# Altium footprint library Footprints.PcbLib: 19 footprints (part 1 of 2)
Each footprint in its own frame and in the unit in brackets; x right, y up, seen from the top. Pads: shape width x height; smd on the part's side, far side on the other; paste and mask are expansions set on the pad; w line width, h text height; cw(c..) or ccw(c..) is an arc to the next point about the centre after c.
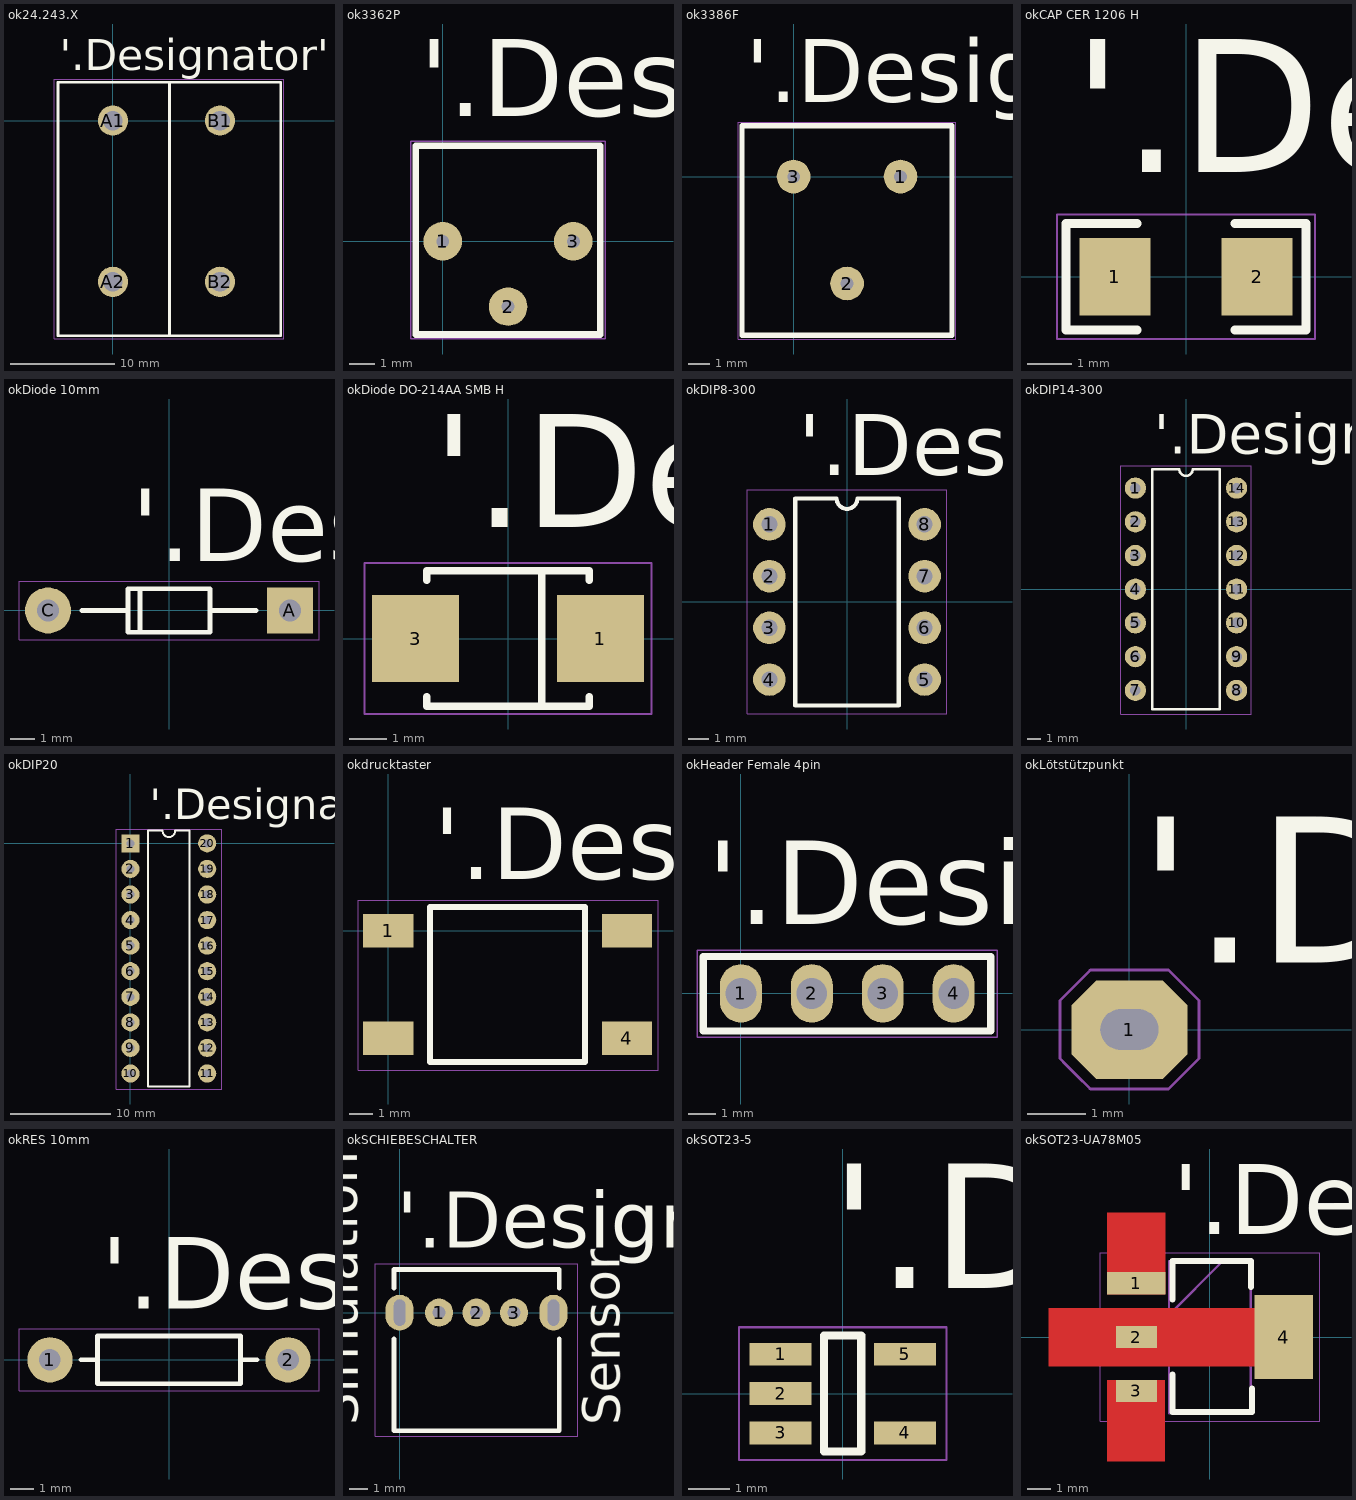
[diagram p0: the footprints below, top view; thin cyan lines are the x and y axes]

## ok24.243.X [mm] "Bananenstecker"
pads (4):
  round 2.9 hole 1.9: A1(0,0) A2(0,-15.5) B1(10.3,0) B2(10.3,-15.5)
Top Overlay:
  lines w0.254: 5.45,-20.703 5.45,3.7 ; -5.28,-20.703 16.15,-20.703 16.15,3.7 -5.261,3.7 -5.28,3.68 -5.28,-20.703
  text "'.Designator'" at -5.112,4.85 h3
Mechanical 15:
  lines w0.05: -5.625,-21 -5.625,3.975 16.425,3.975 16.425,-20.975 16.425,-21 -5.625,-21
3D body "User Library-Multicomp_24_243_1.STEP": height 13, standoff -6, extent -5.05,-20.5 5.65,3.5
3D body "User Library-Multicomp_24_243_2.STEP": height 13, standoff -6, extent 5.25,-20.5 15.95,3.5

## ok3362P [mm]
pads (3):
  round 1.5 hole 0.5: 1(0,0) 2(2.54,-2.54) 3(5.08,0)
Top Overlay:
  lines w0.254: -1.05,-3.625 6.125,-3.625 6.125,3.725 -1.05,3.725 -1.05,-3.625
  text "'.Designator'" at -0.9,4.875 h3
Mechanical 15:
  lines w0.05: -1.237,-3.787 2.537,-3.787 6.325,-3.787 6.325,3.9 2.525,3.9 ; -1.225,-3.8 -1.25,-3.775 -1.25,3.9 ; -1.225,3.9 -1.25,3.9 ; 2.55,3.9 -1.25,3.9
3D body "3362P001XXX0A.stp": height 4.4, standoff -5.76, extent -0.75,-3.442 5.854,3.542

## ok3386F [mm]
pads (3):
  round 1.6 hole 0.6: 1(5.08,0) 2(2.54,-5.08) 3(0,0)
Top Overlay:
  lines w0.254: -2.45,-7.54 7.525,-7.54 7.525,2.41 -2.45,2.41 -2.45,-7.54
  text "'.Designator'" at -2.275,3.535 h3
Mechanical 15:
  lines w0.05: -2.625,-7.715 7.7,-7.715 7.7,2.585 -2.625,2.585 -2.625,-7.715
3D body "Trimpot 3386F.step": height 4.83, standoff -2, extent -2.24,-7.345 7.32,2.215

## okCAP CER 1206 H [mm] "1206 ceramic capacitor for hand soldering"
pads (2):
  rect 1.6x1.75 smd: 1(-1.6,0) 2(1.6,0)
Top Overlay:
  lines w0.2: -1.1,-1.2 -2.7,-1.2 -2.7,1.2 -1.1,1.2 ; 1.1,-1.2 2.7,-1.2 2.7,1.2 1.1,1.2
  text "'.Designator'" at -2.551,2.35 h3
Mechanical 15:
  lines w0.05: -2.9,-1.4 -2.9,1.4 2.9,1.4 2.9,-1.4 -2.9,-1.4
3D body "CAP 1206.step": height 1.15, standoff 0, extent -1.6,-0.8 1.6,0.8

## okDiode 10mm [mm] "Diode for tht mounting with a 10mm pitch"
height 3
pads (2):
  rect 1.9x1.9 hole 0.9: A(5,0)
  round 1.9 hole 0.9: C(-5,0)
Top Overlay:
  lines w0.2: -3.6,0 -1.7,0 ; -1.2,-0.9 -1.2,0.9 ; 1.7,0 3.6,0 ; -1.7,-0.9 1.7,-0.9 1.7,0.9 -1.7,0.9 -1.7,-0.9
  text "'.Designator'" at -1.543,2.042 h3
Mechanical 15:
  lines w0.05: -6.2,-1.2 -6.2,-1.1 -6.2,1.1 -6.2,1.2 0,1.2 6.2,1.2 6.2,1.1 6.2,-1.1 6.2,-1.2 0,-1.2 -6.2,-1.2
3D body "Diode 10mm.step": height 1.82, standoff -2, extent -5.355,-0.901 5.355,0.901

## okDiode DO-214AA SMB H [mm] "Diode in DO-214AA (same as SMB) package for hand soldering"
height 2.5
pads (2):
  rect 2.3x2.3 smd: 1(2.45,0) 3(-2.45,0)
Top Overlay:
  lines w0.2: -2.15,-1.55 -2.15,-1.8 2.15,-1.8 2.15,-1.55 ; -2.15,1.55 -2.15,1.8 2.15,1.8 2.15,1.55 ; 0.9,-1.8 0.9,1.8
  text "'.Designator'" at -1.991,2.947 h3
Mechanical 15:
  lines w0.05: -3.8,-2 -3.8,2 3.8,2 3.8,-2 -3.8,-2
3D body "Diode DO-214AA SMB.step": height 2.3, standoff 0, extent -2.7,-1.8 2.7,1.8

## okDIP8-300 [mm] "DIP8 300mil width"
pads (8):
  round 1.6 hole 0.8: 1(-3.81,3.81) 2(-3.81,1.27) 3(-3.81,-1.27) 4(-3.81,-3.81) 5(3.81,-3.81) 6(3.81,-1.27) 7(3.81,1.27) 8(3.81,3.81)
Top Overlay:
  lines w0.2: -2.54,-5.08 2.54,-5.08 2.54,5.08 0.508,5.08 cw(c0,5.08) -0.508,5.08 -2.54,5.08 -2.54,-5.08
  text "'.Designator'" at -2.39,6.23 h3
Mechanical 15:
  lines w0.05: -4.9,-5.5 0,-5.5 4.9,-5.5 4.9,5.5 0,5.5 -4.9,5.5 -4.9,-5.5
3D body "DIP8-300.step": height 4.5, standoff -3.5, extent -3.88,-5.4 3.88,5.4

## okDIP14-300 [mm] "DIP14 300mil width"
pads (14):
  round 1.6 hole 0.8: 1(-3.81,7.62) 2(-3.81,5.08) 3(-3.81,2.54) 4(-3.81,0) 5(-3.81,-2.54) 6(-3.81,-5.08) 7(-3.81,-7.62) 8(3.81,-7.62) 9(3.81,-5.08) 10(3.81,-2.54) 11(3.81,0) 12(3.81,2.54) 13(3.81,5.08) 14(3.81,7.62)
Top Overlay:
  lines w0.2: -2.54,-9.05 -2.54,9.05 -0.508,9.05 ccw(c0,9.05) 0.508,9.05 2.54,9.05 2.54,-9.05 -2.54,-9.05
  text "'.Designator'" at -2.39,10.2 h3
Mechanical 15:
  lines w0.05: -4.9,-9.4 -4.9,-9.2 -4.9,-9 -4.9,9.3 0,9.3 4.9,9.3 4.9,-9 4.9,-9.2 4.9,-9.4 0,-9.4 -4.9,-9.4
3D body "DIP14-300.step": height 4.5, standoff -3.5, extent -3.88,-9.05 3.88,9.05

## okDIP20 [mm]
pads (20):
  rect 1.8x1.8 hole 0.8: 1(0,0)
  round 1.8 hole 0.8: 2(0,-2.54) 3(0,-5.08) 4(0,-7.62) 5(0,-10.16) 6(0,-12.7) 7(0,-15.24) 8(0,-17.78) 9(0,-20.32) 10(0,-22.86) 11(7.62,-22.86) 12(7.62,-20.32) 13(7.62,-17.78) 14(7.62,-15.24) 15(7.62,-12.7) 16(7.62,-10.16) 17(7.62,-7.62) 18(7.62,-5.08) 19(7.62,-2.54) 20(7.62,0)
Top Overlay:
  lines w0.2: 1.735,-24.13 5.885,-24.13 5.885,1.27 4.445,1.27 cw(c3.81,1.27) 3.175,1.27 1.735,1.27 1.735,-24.13
  text "'.Designator'" at 1.9,2.399 h3
Mechanical 15:
  lines w0.05: -1.4,-24.4 3.8,-24.4 9.05,-24.4 9.05,1.4 3.9,1.4 3.8,1.4 3.7,1.4 -1.4,1.4 -1.4,-24.4
3D body "User Library-20pin 0_3inch 2_54mm IC DIP Socket Round Hole.STEP": height 4.61, standoff -2.9, extent -1.255,-24.2 8.905,1.2

## okdrucktaster [mm]
pads (4):
  rect 2.1x1.4 smd: 1(0,0) 4(10,-4.5) ""(0,-4.5) ""(10,0)
Top Overlay:
  lines w0.254: 1.75,-5.5 8.25,-5.5 8.25,1 1.75,1 1.75,-5.5
  text "'.Designator'" at 1.9,2.15 h3
Mechanical 15:
  lines w0.05: -1.27,-5.842 5.08,-5.842 11.303,-5.842 11.303,1.27 5.08,1.27 -1.27,1.27 -1.27,1.016 -1.27,-5.588 -1.27,-5.842
3D body "1301.9314_3.STEP": height 4.3, standoff 0, extent 0,-5.25 10,0.75

## okHeader Female 4pin [mm]
pads (4):
  oval 1.5x2.1 hole 1.1: 1(0,0) 2(2.54,0) 3(5.08,0) 4(7.62,0)
Top Overlay:
  lines w0.254: -1.35,-1.35 -1.35,1.325 8.95,1.325 8.95,-1.35 -1.35,-1.35
  text "'.Designator'" at -1.2,2.475 h3
Mechanical 15:
  lines w0.05: -1.575,-1.575 -1.575,-1.55 -1.575,1.55 9.175,1.55 9.175,1.525 9.175,-1.575 9.15,-1.575 -1.562,-1.575 -1.575,-1.562 -1.575,-1.575
3D body "HC-SR04-UltrasonicSensor v7.step": height 24.5, standoff -1.7, extent -19.075,-17.45 26.375,0.34
3D body "pcb_connector_346-87-102-41-036101.stp": height 4.45, standoff -2.75, extent -1.28,-1.3 3.8,1.24
3D body "pcb_connector_346-87-102-41-036101.stp": height 4.45, standoff -2.75, extent 3.8,-1.3 8.88,1.24

## okLötstützpunkt [mm]
pads (1):
  oct 2x1.7 hole 0.7 slot 1 at 0 deg: 1(0,0)
Top Overlay:
  text "'.Designator'" at 0.15,1.15 h3
Mechanical 15:
  lines w0.05: -1.1,-0.6 -1.2,-0.5 -1.2,0.4 -1.2,0.5 -0.7,1 ; -1.1,-0.6 -1.1,-0.6 ; -1.1,-0.6 -0.9,-0.8 -0.7,-1 -0.675,-1.025 0.675,-1.025 0.7,-1 1.2,-0.5 1.2,0.5 0.7,1 ; -0.7,1 -0.7,1 ; -0.7,1 -0.7,1 ; -0.7,1 -0.7,1 ; -0.7,1 -0.675,1.025 ; -0.675,1.025 -0.675,1.025 ; -0.675,1.025 0.675,1.025 0.7,1 ; 0.7,1 0.7,1

## okRES 10mm [mm] "resistor for tht mounting with a 10mm pitch"
height 3
pads (2):
  round 1.9 hole 0.9: 1(-5,0) 2(5,0)
Top Overlay:
  lines w0.2: -3.7,0 -3,0 ; 3,0 3.7,0 ; -3,-1 3,-1 3,1 -3,1 -3,-1
  text "'.Designator'" at -2.85,2.15 h3
Mechanical 15:
  lines w0.05: -6.3,-1.3 0,-1.3 6.3,-1.3 6.3,1.3 0,1.3 -6.3,1.3 -6.3,-1.3
3D body "RES THT 10mm.step": height 2.41, standoff -2, extent -5.38,-1.2 5.38,1.2

## okSCHIEBESCHALTER [mm]
pads (5):
  round 1.5 hole 0.7: 1(2.1,0) 2(4.1,0) 3(6.1,0)
  oval 1.5x1.9 hole 1.4 slot 0.6 at 0 deg: ""(0,0) ""(8.2,0)
Top Overlay:
  lines w0.254: -0.3,-1.4 -0.3,-6.3 8.5,-6.3 8.5,-1.4 ; -0.3,1.3 -0.3,2.3 8.5,2.3 8.5,1.3
  text "Sensor" at 11.768,-5.999 h2
  text "Simulation" at -2.218,-5.998 h2
  text "'.Designator'" at -0.15,3.45 h3
Mechanical 15:
  lines w0.05: -1.3,-6.6 -1.3,2.6 4.1,2.6 9.5,2.6 9.5,-6.6 4.1,-6.6 -1.3,-6.6
3D body "OS102011MA1QN1.stp": height 4.7, standoff -2.9, extent -0.2,-6.2 8.4,2.2

## okSOT23-5 [mm] "SOT23-5"
height 1.45
pads (5):
  rect 1.5x0.55 smd: 1(-1.5,0.95) 2(-1.5,0) 3(-1.5,-0.95) 4(1.5,-0.95) 5(1.5,0.95)
Top Overlay:
  lines w0.2: -0.45,-1.4 -0.45,1.4 0.45,1.4 0.45,-1.4 -0.45,-1.4
  text "'.Designator'" at -0.293,2.539 h3
Mechanical 15:
  lines w0.05: -2.5,-1.6 -2.5,1.6 0,1.6 2.5,1.6 2.5,-1.6 0,-1.6 -2.5,-1.6
3D body "User Library-SOT23-5.STEP": height 1.24, standoff 0.14, extent -1.4,-1.448 1.4,1.452

## okSOT23-UA78M05 [mm]
pads (4):
  rect 2.5x0.95 smd: 1(-3.15,2.3)
  rect 1.75x0.95 smd: 2(-3.15,0) 3(-3.15,-2.3)
  rect 2.5x3.6 smd: 4(3.15,0)
Top Layer:
  region: -1.925,-1.825 -4.4,-1.825 -4.4,-5.325 -1.925,-5.325
  rectangle: -6.9,-1.25 4,1.25
  rectangle: -4.4,1.825 -1.9,5.325
Top Overlay:
  lines w0.254: -1.6,-1.6 -1.6,-3.2 1.8,-3.2 1.8,-2.2 ; -1.6,1.6 -1.6,3.25 1.75,3.25 1.75,2.15
  text "'.Designator'" at -1.6,4.4 h3
Top Solder:
  rectangle: -7,-1.35 4.1,1.35
  rectangle: -4.525,-5.425 -1.825,-1.725
  rectangle: -4.5,1.725 -1.8,5.425
Mechanical 13:
  lines w0.1: -1.75,0.95 0.55,3.25 ; -1.75,-3.25 -1.75,3.25 1.75,3.25 1.75,-3.25 -1.75,-3.25
Mechanical 15:
  lines w0.05: -4.7,-3.6 4.7,-3.6 4.7,3.6 -4.7,3.6 -4.7,-3.6
3D body "UA78M05CDCYR.stp": height 1.8, standoff 0, extent -3.5,-3.25 3.5,3.25